# EAGLE library part DX07VN24WA2C1568 (library OTG_C)
CONN PLUG USB3.1 TYPEC 24POS SMD Check prices <https://pricing.snapeda.com/parts/DX07VN24WA2C1568/JAE%20Electronics/view-part?ref=eda>
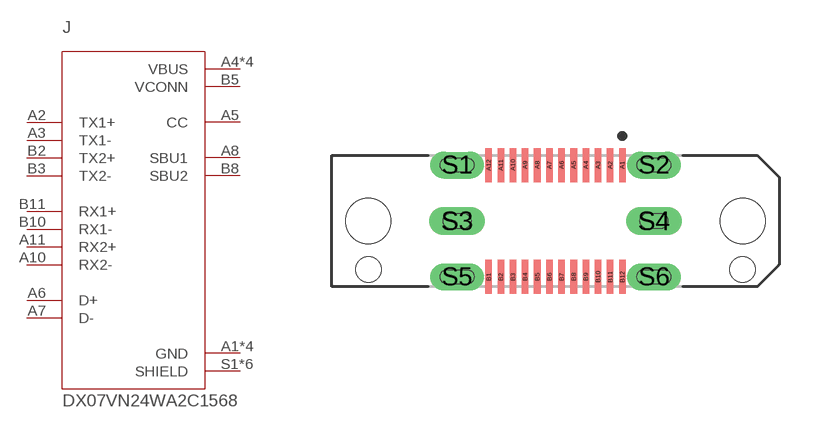
[diagram p6: symbol with the pads of JAE_DX07VN24WA2C1568; footprint JAE_DX07VN24WA2C1568]

Designator prefix J

## DX07VN24WA2C1568 (AVAILABILITY: In Stock; DESCRIPTION: USB-C (USB TYPE-C) USB 3.2 Gen 2 (USB 3.1 Gen 2, Superspeed + (USB 3.1)) Plug Connector 24 Position Surface Mount; MF: JAE Electronics; MP: DX07VN24WA2C1568; PACKAGE: None; PRICE: None; PURCHASE-URL: https://pricing.snapeda.com/search/part/DX07VN24WA2C1568/?ref=eda)  [JAE_DX07VN24WA2C1568]
A1  GND  pwr
A2  TX1+
A3  TX1-
A4  VBUS  pwr
A5  CC
A6  D+
A7  D-
A8  SBU1
A9  VBUS  pwr
A10  RX2-
A11  RX2+
A12  GND  pwr
B1  GND  pwr
B2  TX2+
B3  TX2-
B4  VBUS  pwr
B5  VCONN  pwr
B8  SBU2
B9  VBUS  pwr
B10  RX1-
B11  RX1+
B12  GND  pwr
S1  SHIELD  pwr
S2  SHIELD  pwr
S3  SHIELD  pwr
S4  SHIELD  pwr
S5  SHIELD  pwr
S6  SHIELD  pwr

## Footprint JAE_DX07VN24WA2C1568 (pad centres in mm)
smd 0.27 x 1.4: A1 2.75,2.3; A2 2.25,2.3; A3 1.75,2.3; A4 1.25,2.3; A5 0.75,2.3; A6 0.25,2.3; A7 -0.25,2.3; A8 -0.75,2.3; A9 -1.25,2.3; A10 -1.75,2.3; A11 -2.25,2.3; A12 -2.75,2.3; B1 -2.75,-2.3; B2 -2.25,-2.3; B3 -1.75,-2.3; B4 -1.25,-2.3; B5 -0.75,-2.3; B6 -0.25,-2.3; B7 0.25,-2.3; B8 0.75,-2.3; B9 1.25,-2.3; B10 1.75,-2.3; B11 2.25,-2.3; B12 2.75,-2.3
drill 0.6 pad 0.95 long: S1 -4.05,2.3; S2 4.05,2.3; S5 -4.05,-2.3; S6 4.05,-2.3
drill 0.65 pad 1 long: S3 -4.05,0; S4 4.05,0
hole 1.85 at -7.7,0
hole 1.85 at 7.7,0
hole 1.05 at -7.7,-2
hole 1.05 at 7.7,-2